# Altium footprint library SRM32H743VB.PcbLib: 1 footprints
Each footprint in its own frame and in the unit in brackets; x right, y up, seen from the top. Pads: shape width x height; smd on the part's side, far side on the other; paste and mask are expansions set on the pad; w line width, h text height; cw(c..) or ccw(c..) is an arc to the next point about the centre after c.
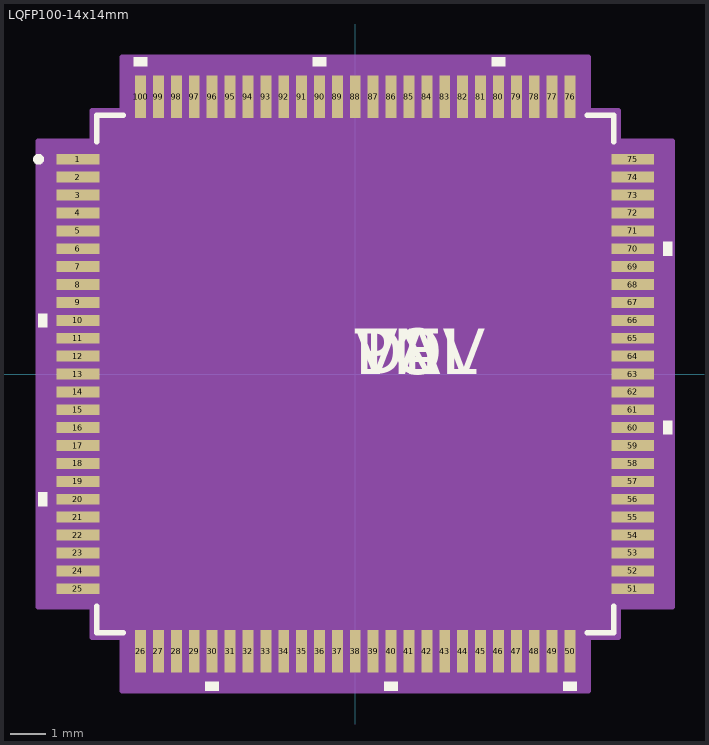
[diagram p0: the footprint, top view; thin cyan lines are the x and y axes]

## LQFP100-14x14mm [mil]
pads (100):
  rect 47x12 smd: 1(-305.12,236.22) 2(-305.12,216.54) 3(-305.12,196.85) 4(-305.12,177.17) 5(-305.12,157.48) 6(-305.12,137.8) 7(-305.12,118.11) 8(-305.12,98.43) 9(-305.12,78.74) 10(-305.12,59.06) 11(-305.12,39.37) 12(-305.12,19.69) 13(-305.12,0) 14(-305.12,-19.68) 15(-305.12,-39.37) 16(-305.12,-59.06) 17(-305.12,-78.74) 18(-305.12,-98.43) 19(-305.12,-118.11) 20(-305.12,-137.8) 21(-305.12,-157.48) 22(-305.12,-177.17) 23(-305.12,-196.85) 24(-305.12,-216.54) 25(-305.12,-236.22) 51(305.12,-236.22) 52(305.12,-216.54) 53(305.12,-196.85) 54(305.12,-177.17) 55(305.12,-157.48) 56(305.12,-137.8) 57(305.12,-118.11) 58(305.12,-98.43) 59(305.12,-78.74) 60(305.12,-59.06) 61(305.12,-39.37) 62(305.12,-19.68) 63(305.12,0) 64(305.12,19.68) 65(305.12,39.37) 66(305.12,59.06) 67(305.12,78.74) 68(305.12,98.43) 69(305.12,118.11) 70(305.12,137.8) 71(305.12,157.48) 72(305.12,177.17) 73(305.12,196.85) 74(305.12,216.54) 75(305.12,236.22)
  rect 12x47 smd: 26(-236.22,-305.12) 27(-216.54,-305.12) 28(-196.85,-305.12) 29(-177.17,-305.12) 30(-157.48,-305.12) 31(-137.8,-305.12) 32(-118.11,-305.12) 33(-98.43,-305.12) 34(-78.74,-305.12) 35(-59.06,-305.12) 36(-39.37,-305.12) 37(-19.68,-305.12) 38(0,-305.12) 39(19.68,-305.12) 40(39.37,-305.12) 41(59.06,-305.12) 42(78.74,-305.12) 43(98.43,-305.12) 44(118.11,-305.12) 45(137.8,-305.12) 46(157.48,-305.12) 47(177.17,-305.12) 48(196.85,-305.12) 49(216.54,-305.12) 50(236.22,-305.12) 76(236.22,305.12) 77(216.54,305.12) 78(196.85,305.12) 79(177.17,305.12) 80(157.48,305.12) 81(137.8,305.12) 82(118.11,305.12) 83(98.43,305.12) 84(78.74,305.12) 85(59.06,305.12) 86(39.37,305.12) 87(19.68,305.12) 88(0,305.12) 89(-19.68,305.12) 90(-39.37,305.12) 91(-59.06,305.12) 92(-78.74,305.12) 93(-98.43,305.12) 94(-118.11,305.12) 95(-137.8,305.12) 96(-157.48,305.12) 97(-177.17,305.12) 98(-196.85,305.12) 99(-216.54,305.12) 100(-236.22,305.12)
Top Overlay:
  circle w6: c-348.46,236.22 r3
  region: -228.72,338.62 -243.72,338.62 -243.72,348.62 -228.72,348.62
  region: -31.87,338.62 -46.87,338.62 -46.87,348.62 -31.87,348.62
  region: 164.98,338.62 149.98,338.62 149.98,348.62 164.98,348.62
  region: 338.62,145.3 348.62,145.3 348.62,130.3 338.62,130.3
  region: 338.62,-51.56 348.62,-51.56 348.62,-66.56 338.62,-66.56
  region: 243.72,-338.62 228.72,-338.62 228.72,-348.62 243.72,-348.62
  region: 46.87,-338.62 31.87,-338.62 31.87,-348.62 46.87,-348.62
  region: -149.98,-338.62 -164.98,-338.62 -164.98,-348.62 -149.98,-348.62
  region: -338.62,-130.3 -348.62,-130.3 -348.62,-145.3 -338.62,-145.3
  region: -338.62,66.56 -348.62,66.56 -348.62,51.56 -338.62,51.56
  lines w6: -284.5,-255.32 -284.5,-284.5 -255.32,-284.5 ; -284.5,255.32 -284.5,284.5 -255.32,284.5 ; 255.32,-284.5 284.5,-284.5 284.5,-255.32 ; 255.32,284.5 284.5,284.5 284.5,255.32
  text "TOL" at 0,0 h50
  text "VAL" at 0,0 h50
  text "DEV" at 0,0 h50
  text "PN" at 0,0 h50
Mechanical 13:
  circle w0: c-256.62,236.22 r3
  text "RefDes2" at 0,0 h50
Mechanical 15:
  region: -256.22,-289.5 -289.5,-289.5 -289.5,-256.22 -348.62,-256.22 -348.62,256.22 -289.5,256.22 -289.5,289.5 -256.22,289.5 -256.22,348.62 256.22,348.62 256.22,289.5 289.5,289.5 289.5,256.22 348.62,256.22 348.62,-256.22 289.5,-256.22 289.5,-289.5 256.22,-289.5 256.22,-348.62 -256.22,-348.62
  lines w6: -348.62,-256.22 -348.62,256.22 -289.5,256.22 -289.5,289.5 -256.22,289.5 -256.22,348.62 256.22,348.62 256.22,289.5 289.5,289.5 289.5,256.22 348.62,256.22 348.62,-256.22 289.5,-256.22 289.5,-289.5 256.22,-289.5 256.22,-348.62 -256.22,-348.62 -256.22,-289.5 -289.5,-289.5 -289.5,-256.22 -348.62,-256.22
Multi-Layer:
  text "Copyright (C) 2016 Accelerated Designs. All rights reserved" at 0,0 h1
3D body "LQFP100-14x14mm.stp": height 63.1, standoff 0, extent -314.84,-314.84 314.84,314.84